# EAGLE library part RF6545/75 (library parts)
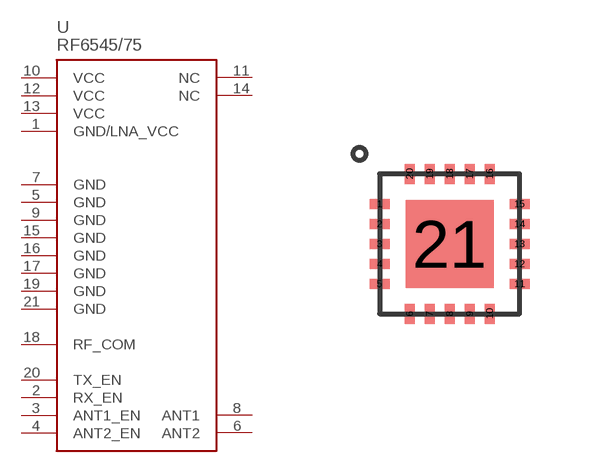
[diagram p15: symbol with the pads of QFN3.5X3.5-20; footprint QFN3.5X3.5-20]

Designator prefix U

## RF6545/75  [QFN3.5X3.5-20]
1  GND/LNA_VCC  pwr
2  RX_EN
3  ANT1_EN
4  ANT2_EN
5  GND  pwr
6  ANT2  pas
7  GND  pwr
8  ANT1  pas
9  GND  pwr
10  VCC  pwr
11  NC  nc
12  VCC  pwr
13  VCC  pwr
14  NC  nc
15  GND  pwr
16  GND  pwr
17  GND  pwr
18  RF_COM  pas
19  GND  pwr
20  TX_EN
21  GND  pwr

## Footprint QFN3.5X3.5-20 (pad centres in mm)
smd 0.5 x 0.25: 1 -1.75,1; 2 -1.75,0.5; 3 -1.75,0; 4 -1.75,-0.5; 5 -1.75,-1; 11 1.75,-1; 12 1.75,-0.5; 13 1.75,0; 14 1.75,0.5; 15 1.75,1
smd 0.25 x 0.5: 6 -1,-1.75; 7 -0.5,-1.75; 8 0,-1.75; 9 0.5,-1.75; 10 1,-1.75; 16 1,1.75; 17 0.5,1.75; 18 0,1.75; 19 -0.5,1.75; 20 -1,1.75
smd 2.2 x 2.2: 21 0,0